# EAGLE library part MOSFET-NCHANNEL_DUAL (library lio)
Dual N-Channel 30-V (D-S) MOSFET FDMA1024NZ TRANS-09516 http://www.vishay.com/docs/71053/71053.pdf
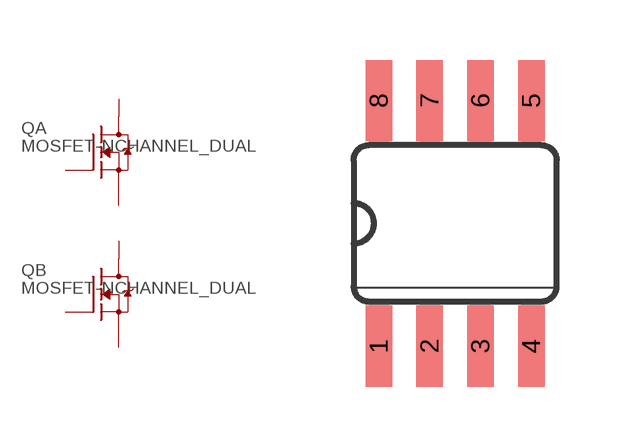
[diagram p20: symbol with the pads of SO08; footprint SO08]

Designator prefix Q; gates A=N-MOSFET-G2DS-D B=N-MOSFET-G2DS-D

## MOSFET-NCHANNEL_DUAL  [SO08]
1  B:S  pas
2  B:G  pas
3  A:S  pas
4  A:G  pas
5  A:D  pas
6  A:D1  pas
7  B:D  pas
8  B:D1  pas

## Footprint SO08 (pad centres in mm)
smd 0.66 x 2.032: 1 -1.905,-3.073; 2 -0.635,-3.073; 3 0.635,-3.073; 4 1.905,-3.073; 5 1.905,3.073; 6 0.635,3.073; 7 -0.635,3.073; 8 -1.905,3.073